# Altium schematic symbol library TPS62420DRCTG4.SchLib: 1 symbol
Pins are listed as number, name and electrical type; pins without a type are passive.

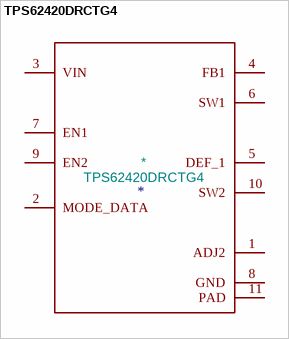
[diagram p0: symbol TPS62420DRCTG4]

## TPS62420DRCTG4
designator *  value TPS62420DRCTG4
ki_fp_filters: DRC0010J; Footprint: DRC0010J; Supplier: TPS62420DRCTG4; ki_keywords: TPS62420DRCTG4
footprint DRC0010J
pins: 1 ADJ2, 2 MODE_DATA, 3 VIN, 4 FB1, 5 DEF_1, 6 SW1, 7 EN1, 8 GND, 9 EN2, 10 SW2, 11 PAD